# EAGLE library part ATF150X84 (library atmel-cpld)
ATF150x in 84 pin package.
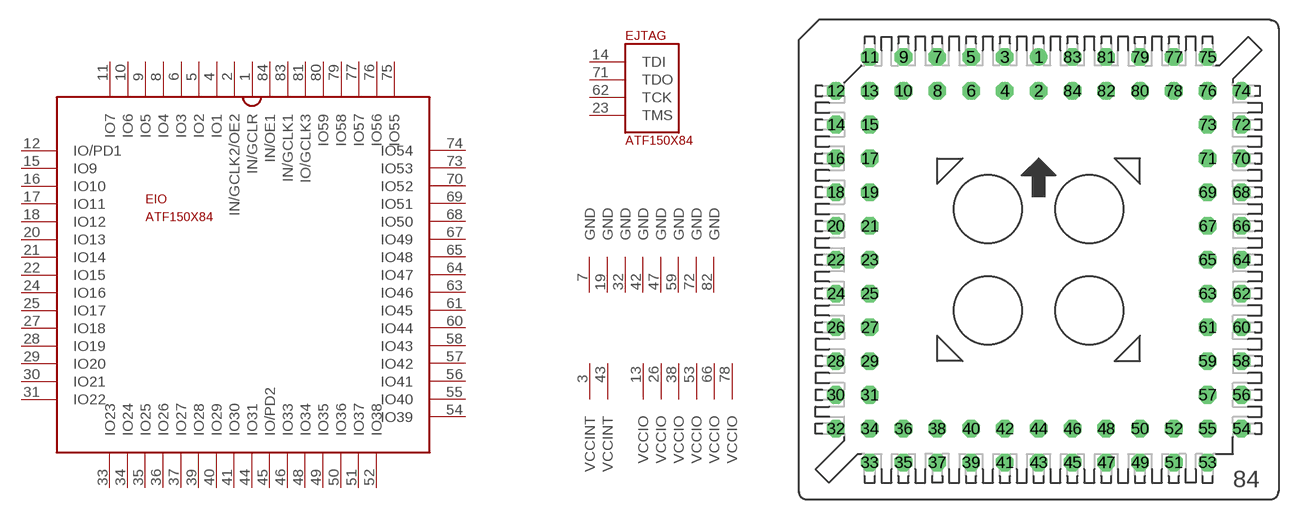
[diagram p2: symbol with the pads of S84; footprint S84]

Designator prefix E; gates IO=AT1508-84 JTAG=JTAG G$1=PGND G$2=PGND G$3=PGND G$4=PGND G$5=PGND G$6=PGND G$7=PGND G$8=PGND G$9=PVCCINT G$10=PVCCINT G$11=PVCCIO G$12=PVCCIO G$13=PVCCIO G$14=PVCCIO G$15=PVCCIO G$16=PVCCIO

## ATF150X84  [S84]
1  IO:IN/GCLR  in
2  IO:IN/GCLK2/OE2  in
3  G$9:VCCINT  pwr
4  IO:IO1
5  IO:IO2
6  IO:IO3
7  G$1:GND  pwr
8  IO:IO4
9  IO:IO5
10  IO:IO6
11  IO:IO7
12  IO:IO/PD1
13  G$11:VCCIO  pwr
14  JTAG:TDI
15  IO:IO9
16  IO:IO10
17  IO:IO11
18  IO:IO12
19  G$2:GND  pwr
20  IO:IO13
21  IO:IO14
22  IO:IO15
23  JTAG:TMS
24  IO:IO16
25  IO:IO17
26  G$12:VCCIO  pwr
27  IO:IO18
28  IO:IO19
29  IO:IO20
30  IO:IO21
31  IO:IO22
32  G$3:GND  pwr
33  IO:IO23
34  IO:IO24
35  IO:IO25
36  IO:IO26
37  IO:IO27
38  G$13:VCCIO  pwr
39  IO:IO28
40  IO:IO29
41  IO:IO30
42  G$4:GND  pwr
43  G$10:VCCINT  pwr
44  IO:IO31
45  IO:IO/PD2
46  IO:IO33
47  G$5:GND  pwr
48  IO:IO34
49  IO:IO35
50  IO:IO36
51  IO:IO37
52  IO:IO38
53  G$14:VCCIO  pwr
54  IO:IO39
55  IO:IO40
56  IO:IO41
57  IO:IO42
58  IO:IO43
59  G$6:GND  pwr
60  IO:IO44
61  IO:IO45
62  JTAG:TCK
63  IO:IO46
64  IO:IO47
65  IO:IO48
66  G$15:VCCIO  pwr
67  IO:IO49
68  IO:IO50
69  IO:IO51
70  IO:IO52
71  JTAG:TDO
72  G$7:GND  pwr
73  IO:IO53
74  IO:IO54
75  IO:IO55
76  IO:IO56
77  IO:IO57
78  G$16:VCCIO  pwr
79  IO:IO58
80  IO:IO59
81  IO:IO/GCLK3
82  G$8:GND  pwr
83  IO:IN/GCLK1  in
84  IO:IN/OE1  in

## Footprint S84 (pad centres in mm)
84 Pin PLCC Socket
drill 0.813: 1 0,15.24
drill 0.813 octagon: 2 0,12.7; 3 -2.54,15.24; 4 -2.54,12.7; 5 -5.08,15.24; 6 -5.08,12.7; 7 -7.62,15.24; 8 -7.62,12.7; 9 -10.16,15.24; 10 -10.16,12.7; 11 -12.7,15.24; 12 -15.24,12.7; 13 -12.7,12.7; 14 -15.24,10.16; 15 -12.7,10.16; 16 -15.24,7.62; 17 -12.7,7.62; 18 -15.24,5.08; 19 -12.7,5.08; 20 -15.24,2.54; 21 -12.7,2.54; 22 -15.24,0; 23 -12.7,0; 24 -15.24,-2.54; 25 -12.7,-2.54; 26 -15.24,-5.08; 27 -12.7,-5.08; 28 -15.24,-7.62; 29 -12.7,-7.62; 30 -15.24,-10.16; 31 -12.7,-10.16; 32 -15.24,-12.7; 33 -12.7,-15.24; 34 -12.7,-12.7; 35 -10.16,-15.24; 36 -10.16,-12.7; 37 -7.62,-15.24; 38 -7.62,-12.7; 39 -5.08,-15.24; 40 -5.08,-12.7; 41 -2.54,-15.24; 42 -2.54,-12.7; 43 0,-15.24; 44 0,-12.7; 45 2.54,-15.24; 46 2.54,-12.7; 47 5.08,-15.24; 48 5.08,-12.7; 49 7.62,-15.24; 50 7.62,-12.7; 51 10.16,-15.24; 52 10.16,-12.7; 53 12.7,-15.24; 54 15.24,-12.7; 55 12.7,-12.7; 56 15.24,-10.16; 57 12.7,-10.16; 58 15.24,-7.62; 59 12.7,-7.62; 60 15.24,-5.08; 61 12.7,-5.08; 62 15.24,-2.54; 63 12.7,-2.54; 64 15.24,0; 65 12.7,0; 66 15.24,2.54; 67 12.7,2.54; 68 15.24,5.08; 69 12.7,5.08; 70 15.24,7.62; 71 12.7,7.62; 72 15.24,10.16; 73 12.7,10.16; 74 15.24,12.7; 75 12.7,15.24; 76 12.7,12.7; 77 10.16,15.24; 78 10.16,12.7; 79 7.62,15.24; 80 7.62,12.7; 81 5.08,15.24; 82 5.08,12.7; 83 2.54,15.24; 84 2.54,12.7